# EAGLE library part MMA8653FC (library Reaccion-Custom-revised)
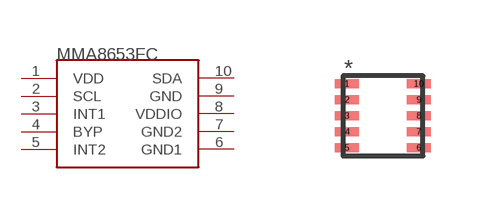
[diagram p0: symbol with the pads of 2X2-DFN; footprint 2X2-DFN]

Designator prefix -

## MMA8653FC  [2X2-DFN]
1  VDD
2  SCL
3  INT1
4  BYP
5  INT2
6  GND1
7  GND2
8  VDDIO
9  GND
10  SDA

## Footprint 2X2-DFN (pad centres in mm)
smd 0.6 x 0.225: 1 -0.897,0.8; 2 -0.897,0.4; 3 -0.897,0; 4 -0.897,-0.4; 5 -0.897,-0.8; 6 0.897,-0.8; 7 0.897,-0.4; 8 0.897,0; 9 0.897,0.4; 10 0.897,0.8